# Altium footprint library resistencias_smd.PCBLIB: 183 footprints (part 7 of 12)
Each footprint in its own frame and in the unit in brackets; x right, y up, seen from the top. Pads: shape width x height; smd on the part's side, far side on the other; paste and mask are expansions set on the pad; w line width, h text height; cw(c..) or ccw(c..) is an arc to the next point about the centre after c.
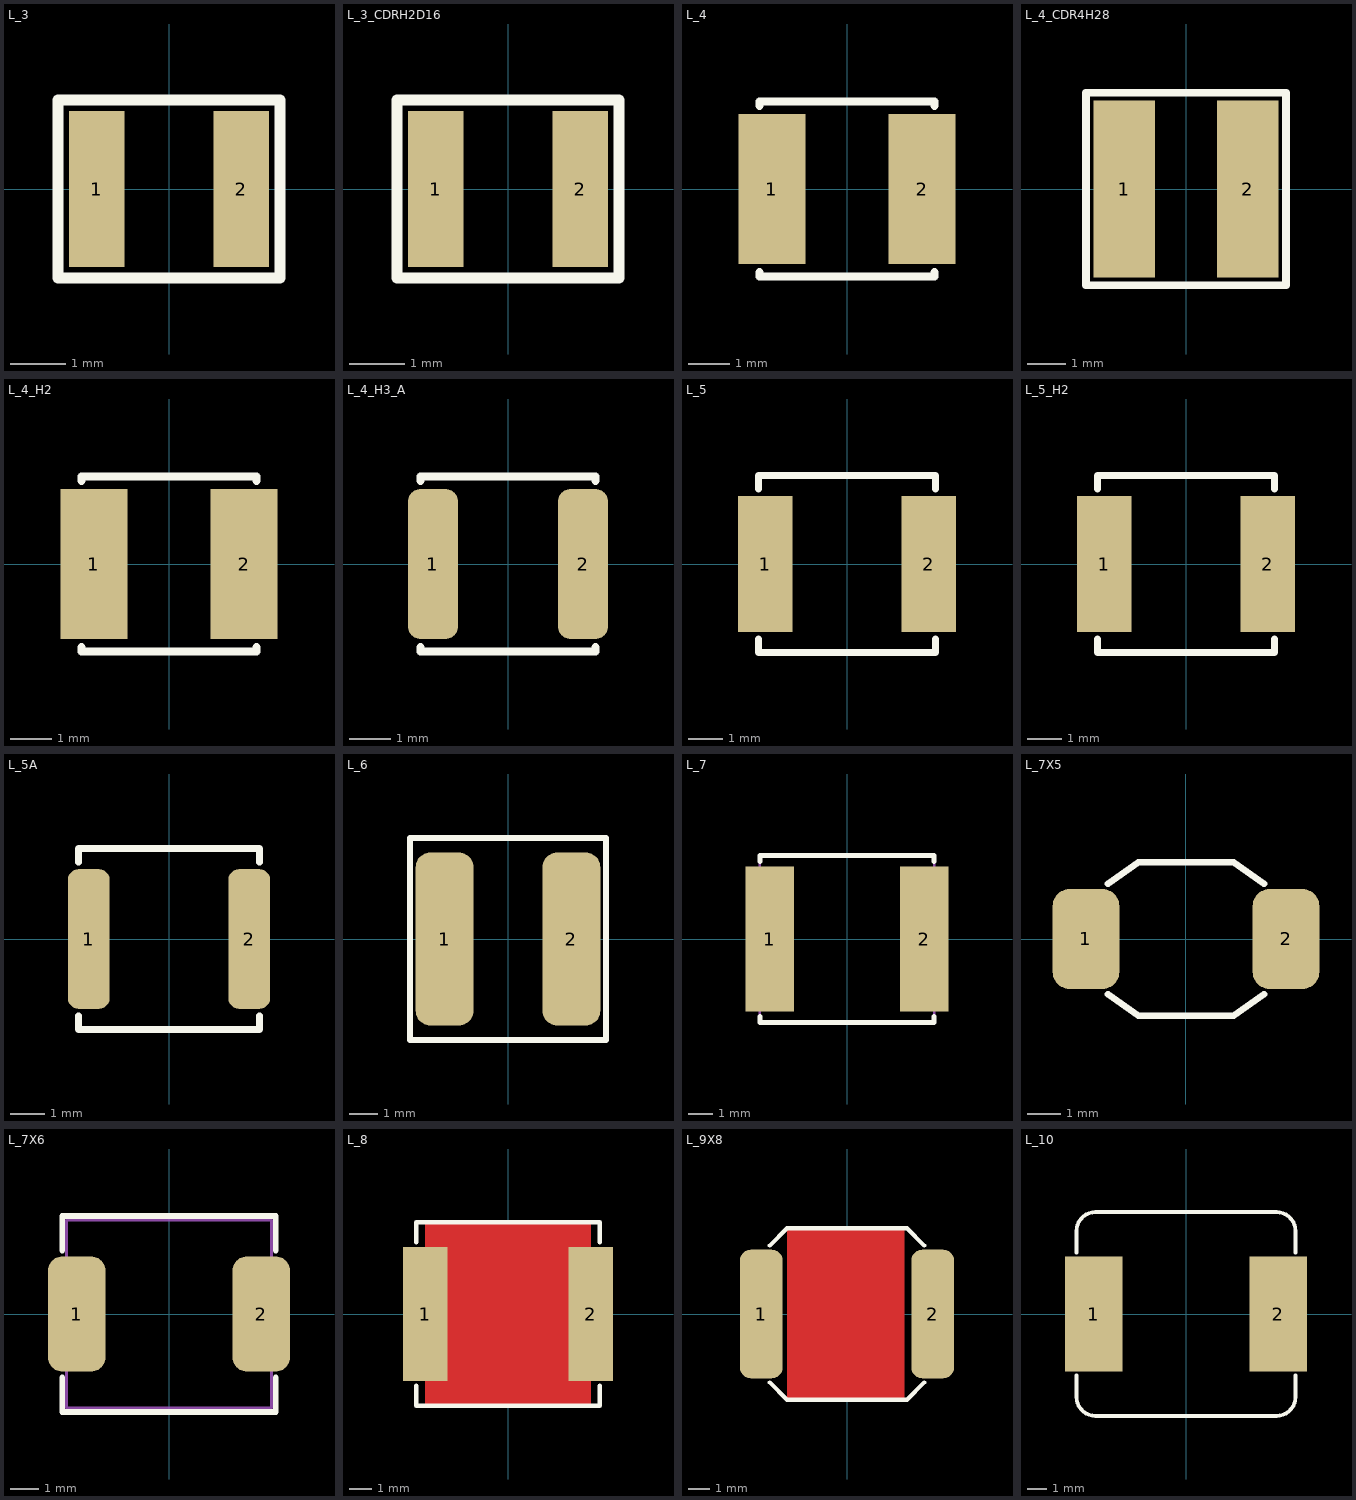
[diagram p6: the footprints below, top view; thin cyan lines are the x and y axes]

## L_3 [mm] "INDUCTOR, 3.0X3.2mm, VLS3012"
pads (2):
  rect 1x2.8 smd mask+0.1: 1(-1.3,0) 2(1.3,0)
Top Overlay:
  lines w0.2: -2,-1.6 -2,1.6 2,1.6 2,-1.6 -2,-1.6
3D body: height 1.2, standoff 0, extent -1.5,-1.5 1.5,1.5

## L_3_CDRH2D16 [mm] "INDUCTOR, 3.0X3.2mm, CDRH2D16"
height 1.6
pads (2):
  rect 1x2.8 smd mask+0.1: 1(-1.3,0) 2(1.3,0)
Top Overlay:
  lines w0.2: -2,-1.6 -2,1.6 2,1.6 2,-1.6 -2,-1.6
3D body: height 1.2, standoff 0, extent -1.5,-1.5 1.5,1.5

## L_4 [mm] "INDUCTOR, 3.8x3.8mm, 3.7x3.5mm, WURTH 744031470"
height 1.7
pads (2):
  rect 1.6x3.6 smd: 1(-1.8,0) 2(1.8,0)
Top Overlay:
  lines w0.2: -2.1,-2 -2.1,-2.1 2.1,-2.1 2.1,-2 ; -2.1,2 -2.1,2.1 2.1,2.1 2.1,2
3D body "Ind_Vishay_IHLP1616BZER1R0M5A_eec.STEP": height 2, standoff 0, extent -2.225,-2.03 2.225,2.03

## L_4_CDR4H28 [mm] "INDUCTOR, 4X4X2.8mm, CDR4H28"
height 2.8
pads (2):
  rect 1.6x4.6 smd: 1(-1.6,0) 2(1.6,0)
Top Overlay:
  lines w0.2: -2.6,-2.5 -2.6,2.5 2.6,2.5 2.6,-2.5 -2.6,-2.5
3D body "User Library-CDRH4D28.step": height 2.91, standoff 0, extent -2.45,-2.45 2.45,2.45

## L_4_H2 [mm] "INDUCTOR, 4.1X4.1X2.1mm, VLCF4020"
height 2.1
pads (2):
  rect 1.6x3.6 smd: 1(-1.8,0) 2(1.8,0)
Top Overlay:
  lines w0.2: -2.1,-2 -2.1,-2.1 2.1,-2.1 2.1,-2 ; -2.1,2 -2.1,2.1 2.1,2.1 2.1,2
3D body "User Library-VLCF4020.step": height 2, standoff 0, extent -2.05,-2 2.05,2

## L_4_H3_A [mm] "INDUCTOR, 4X4X2.8mm"
height 2.8
pads (2):
  rrect50% 1.2x3.6 smd: 1(-1.8,0) 2(1.8,0)
Top Overlay:
  lines w0.2: -2.1,-2 -2.1,-2.1 2.1,-2.1 2.1,-2 ; -2.1,2 -2.1,2.1 2.1,2.1 2.1,2
3D body "User Library-VLCF4020.step": height 2, standoff 0, extent -2.05,-2 2.05,2

## L_5 [mm] "INDUCTOR, 5.0X5.0mm"
pads (2):
  rect 1.6x4 smd: 1(-2.4,0) 2(2.4,0)
Top Overlay:
  lines w0.2: -2.6,-2.2 -2.6,-2.6 2.6,-2.6 2.6,-2.2 ; -2.6,2.2 -2.6,2.6 2.6,2.6 2.6,2.2
3D body: height 3, standoff 0, extent -2.5,-2.5 2.5,2.5

## L_5_H2 [mm] "INDUCTOR, 5.0X5.0X2mm"
pads (2):
  rect 1.6x4 smd: 1(-2.4,0) 2(2.4,0)
Top Overlay:
  lines w0.2: -2.6,-2.2 -2.6,-2.6 2.6,-2.6 2.6,-2.2 ; -2.6,2.2 -2.6,2.6 2.6,2.6 2.6,2.2
3D body: height 2, standoff 0, extent -2.5,-2.5 2.5,2.5

## L_5A [mm] "INDUCTOR, 5.0X5.0mm"
pads (2):
  rrect50% 1.2x4 smd mask+0.075: 1(-2.3,0) 2(2.3,0)
Top Overlay:
  lines w0.2: -2.6,-2.2 -2.6,-2.6 2.6,-2.6 2.6,-2.2 ; -2.6,2.2 -2.6,2.6 2.6,2.6 2.6,2.2
3D body: height 3, standoff 0, extent -2.5,-2.5 2.5,2.5

## L_6 [mm] "INDUCTOR, 6.0X6.0mm, SRP6030, XAL6030"
height 3
pads (2):
  rrect50% 2x6 smd: 1(-2.2,0) 2(2.2,0)
Top Overlay:
  lines w0.2: -3.4,-3.5 -3.4,3.5 3.4,3.5 3.4,-3.5 -3.4,-3.5
3D body "Coilcraft-XAL6030.step": height 3.1, standoff 0, extent -3.28,-3.38 3.28,3.38

## L_7 [mm] "INDUCTOR, 7.2X6.9mm, 7.1X6.5mm, SPM6530"
height 4.5
pads (2):
  rect 2x6 smd: 1(-3.2,0) 2(3.2,0)
Top Overlay:
  lines w0.2: -3.6,-3.2 -3.6,-3.45 3.6,-3.45 3.6,-3.2 ; -3.6,3.2 -3.6,3.45 3.6,3.45 3.6,3.2
Mechanical 13:
  lines w0.1: -3.6,-3.45 -3.6,3.45 3.6,3.45 3.6,-3.45 -3.6,-3.45
3D body "User Library-FP3-Cooper.step": height 3, standoff 0, extent -3.625,-3.35 3.625,3.35

## L_7X5 [mm] "INDUCTOR, 6.6X4.4X3mm, SDE6603"
pads (2):
  rrect50% 2x3 smd: 1(-3,0) 2(3,0)
Top Overlay:
  lines w0.2: -2.342,-1.66 -1.429,-2.3 1.429,-2.3 2.342,-1.66 ; -2.342,1.66 -1.429,2.3 1.429,2.3 2.342,1.66
3D body "User Library-SDE6603_ws.STEP": height 2.91, standoff 0, extent -3.3,-2.225 3.3,2.225

## L_7X6 [mm] "Precision Wire Wound Inductor, 2-Leads, Body 7.5x6.5x3mm, IPC Medium Density"
height 3
pads (2):
  rrect50% 2x4 smd: 1(-3.2,0) 2(3.2,0)
Top Overlay:
  lines w0.2: -3.7,-2.2 -3.7,-3.4 3.7,-3.4 3.7,-2.2 ; -3.7,2.2 -3.7,3.4 3.7,3.4 3.7,2.2
Mechanical 13:
  lines w0.1: -3.55,-3.25 3.55,-3.25 3.55,3.25 -3.55,3.25 -3.55,-3.25
3D body: height 3, standoff 0, extent -3.55,-3.25 3.55,3.25

## L_8 [mm] "INDUCTOR, 7.5X7.5mm, 8x8, DR74"
height 4.5
pads (2):
  rect 2x6 smd: 1(-3.7,0) 2(3.7,0)
Top Layer:
  pour cut-out: -3.7,4.1 -3.7,-4.1 3.7,-4.1 3.7,4.1
Top Overlay:
  lines w0.2: -4.1,-3.2 -4.1,-4.1 4.1,-4.1 4.1,-3.2 ; -4.1,3.2 -4.1,4.1 4.1,4.1 4.1,3.2
3D body "Cooper Bussman DR73 Series Inductor.STEP": height 3.55, standoff 0, extent -3.8,-3.8 3.8,3.8

## L_9X8 [mm] "INDUCTOR, 9X7.7X1.6mm 2700 SERIES MURATA"
pads (2):
  rrect50% 2x6 smd: 1(-4,0) 2(4,0)
Top Layer:
  pour cut-out: -2.794,4.064 2.667,4.064 2.667,-4.064 -2.794,-4.064
Top Overlay:
  lines w0.2: -3.6,-3.2 -2.8,-4 2.8,-4 3.6,-3.2 ; -3.6,3.2 -2.8,4 2.8,4 3.6,3.2
3D body: height 1.6, standoff 0, extent -3.7,-3.9 3.7,3.9
3D body: height 1.6, standoff 0, extent -4.5,-2.9 -3.7,2.9
3D body: height 1.6, standoff 0, extent 3.7,-2.9 4.5,2.9

## L_10 [mm] "INDUCTOR, 10.5X11.5mm, CDRH104R, MSS1038 (coilcraft)"
height 4
pads (2):
  rect 3x6 smd: 1(-4.8,0) 2(4.8,0)
Top Overlay:
  lines w0.2: -5.7,-3.2 -5.7,-4.3 ccw(c-4.7,-4.3) -4.7,-5.3 4.7,-5.3 ccw(c4.7,-4.3) 5.7,-4.3 5.7,-3.2 ; -5.7,3.2 -5.7,4.3 cw(c-4.7,4.3) -4.7,5.3 4.7,5.3 cw(c4.7,4.3) 5.7,4.3 5.7,3.2
3D body "MPC1040LR45C.step": height 4.01, standoff 0, extent -5.75,-5.15 5.75,5.15